# Altium footprint library PCBLibSynthe.PcbLib: 19 footprints (part 2 of 2)
Each footprint in its own frame and in the unit in brackets; x right, y up, seen from the top. Pads: shape width x height; smd on the part's side, far side on the other; paste and mask are expansions set on the pad; w line width, h text height; cw(c..) or ccw(c..) is an arc to the next point about the centre after c.
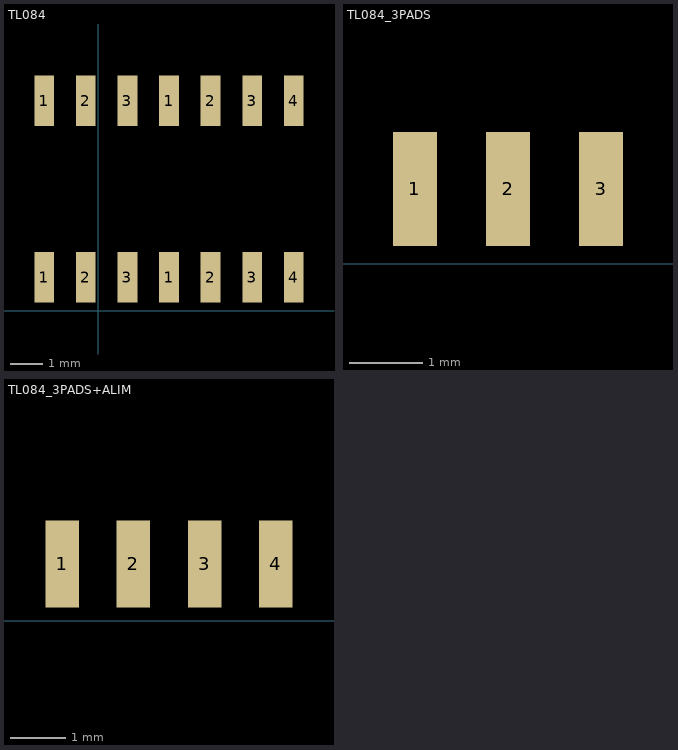
[diagram p1: the footprints below, top view; thin cyan lines are the x and y axes]

## TL084 [mm] "Ampli-op"
pads (14):
  rect 0.6x1.55 smd: 1(-1.651,1.016) 1(-1.651,6.416) 1(2.159,1.016) 1(2.159,6.416) 2(-0.381,1.016) 2(-0.381,6.416) 2(3.429,1.016) 2(3.429,6.416) 3(0.889,1.016) 3(0.889,6.416) 3(4.699,1.016) 3(4.699,6.416) 4(5.969,1.016) 4(5.969,6.416)

## TL084_3PADS [mm] "Ampli-op"
pads (3):
  rect 0.6x1.55 smd: 1(2.159,1.016) 2(3.429,1.016) 3(4.699,1.016)

## TL084_3PADS+ALIM [mm] "Ampli-op"
pads (4):
  rect 0.6x1.55 smd: 1(2.159,1.016) 2(3.429,1.016) 3(4.699,1.016) 4(5.969,1.016)